# EAGLE library part M-08-MICRO-MATCH (library Jordi)
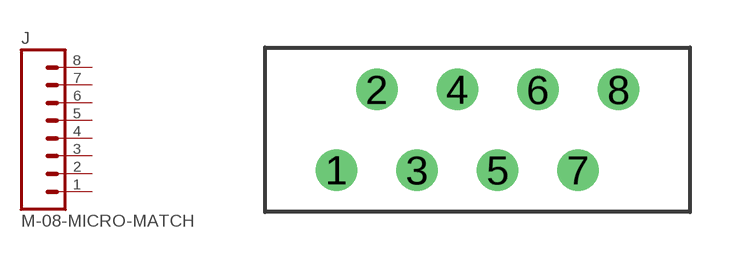
[diagram p28: symbol with the pads of M-08-MICRO-MATCH-PTH; footprint M-08-MICRO-MATCH-PTH]

Designator prefix J

## M-08-MICRO-MATCHPTH  [M-08-MICRO-MATCH-PTH]
1  1  pas
2  2  pas
3  3  pas
4  4  pas
5  5  pas
6  6  pas
7  7  pas
8  8  pas

## Footprint M-08-MICRO-MATCH-PTH (pad centres in mm)
drill 0.8 pad 1.27: 1 -4.445,-1.27; 2 -3.175,1.27; 3 -1.905,-1.27; 4 -0.635,1.27; 5 0.635,-1.27; 6 1.905,1.27; 7 3.175,-1.27; 8 4.445,1.27